# EAGLE library part FMAMSDXX005WC2C3 (library SamacSys_Parts)
Force Sensors & Load Cells MICROFORCE SENSOR 5N FMA,I2C Source: Datasheet <https://componentsearchengine.com/Datasheets/2/FMAMSDXX005WC2C3.pdf>
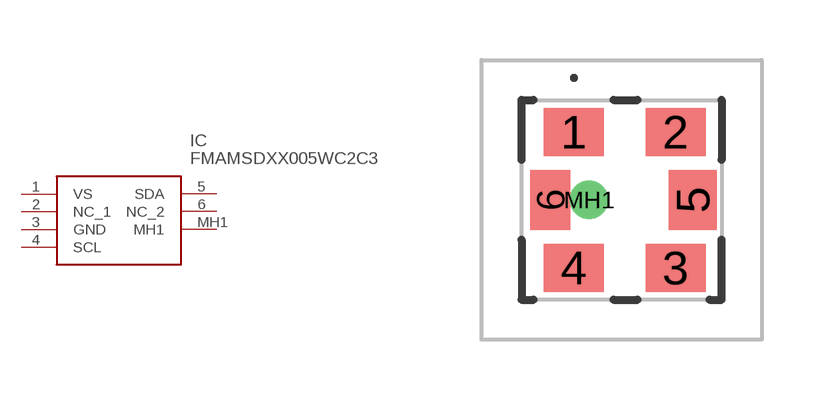
[diagram p0: symbol with the pads of FMAMSDXX005WC2C3; footprint FMAMSDXX005WC2C3]

Designator prefix IC

## FMAMSDXX005WC2C3 (ARROW_PART_NUMBER: FMAMSDXX005WC2C3; ARROW_PRICE-STOCK: https://www.arrow.com/en/products/fmamsdxx005wc2c3/honeywell?region=nac; DESCRIPTION: Force Sensors & Load Cells MICROFORCE SENSOR 5N FMA,I2C; HEIGHT: 2.518mm; MANUFACTURER_NAME: Honeywell; MANUFACTURER_PART_NUMBER: FMAMSDXX005WC2C3; MOUSER_PART_NUMBER: 785-FMAMSDXX005WC2C3; MOUSER_PRICE-STOCK: https://www.mouser.co.uk/ProductDetail/Honeywell/FMAMSDXX005WC2C3?qs=GedFDFLaBXFUatIEWGhy%252BQ%3D%3D)  [FMAMSDXX005WC2C3]
1  VS
2  NC_1
3  GND
4  SCL
5  SDA
6  NC_2
MH1  MH1

## Footprint FMAMSDXX005WC2C3 (pad centres in mm)
FMAMSDXX005WC2C3-4
smd 1.5 x 1.2: 1 -1.27,1.7; 2 1.27,1.7; 3 1.27,-1.7; 4 -1.27,-1.7
smd 1.2 x 1.5: 5 1.7,0
smd 1 x 1.5: 6 -1.86,0
drill 0.45 pad 0.65: MH1 -0.89,0